# Altium schematic symbol library BH-10(DS1013-10S).SchLib: 1 symbol
Pins are listed as number, name and electrical type; pins without a type are passive.

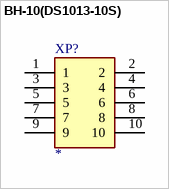
[diagram p0: symbol BH-10(DS1013-10S)]

## BH-10(DS1013-10S)
designator XP?
Socket; IDC; male; PIN: 10; straight; THT; gold plated; 2.54mm; MF: Connfly; MP: DS1013-10SSIB1; SnapEDA_Link: https://www.snapeda.com/parts/DS1013-10SSIB1/Connfly/view-part/?ref=snap; Package: None; Value: *; Check_prices: https://www.snapeda.com/parts/DS1013-10SSIB1/Connfly/view-part/?ref=eda
footprint BH-10(DS1013-10S)
pins: 1, 2, 3, 4, 5, 6, 7, 8, 9, 10